# Altium footprint library passive.PcbLib: 22 footprints (part 2 of 2)
Each footprint in its own frame and in the unit in brackets; x right, y up, seen from the top. Pads: shape width x height; smd on the part's side, far side on the other; paste and mask are expansions set on the pad; w line width, h text height; cw(c..) or ccw(c..) is an arc to the next point about the centre after c.
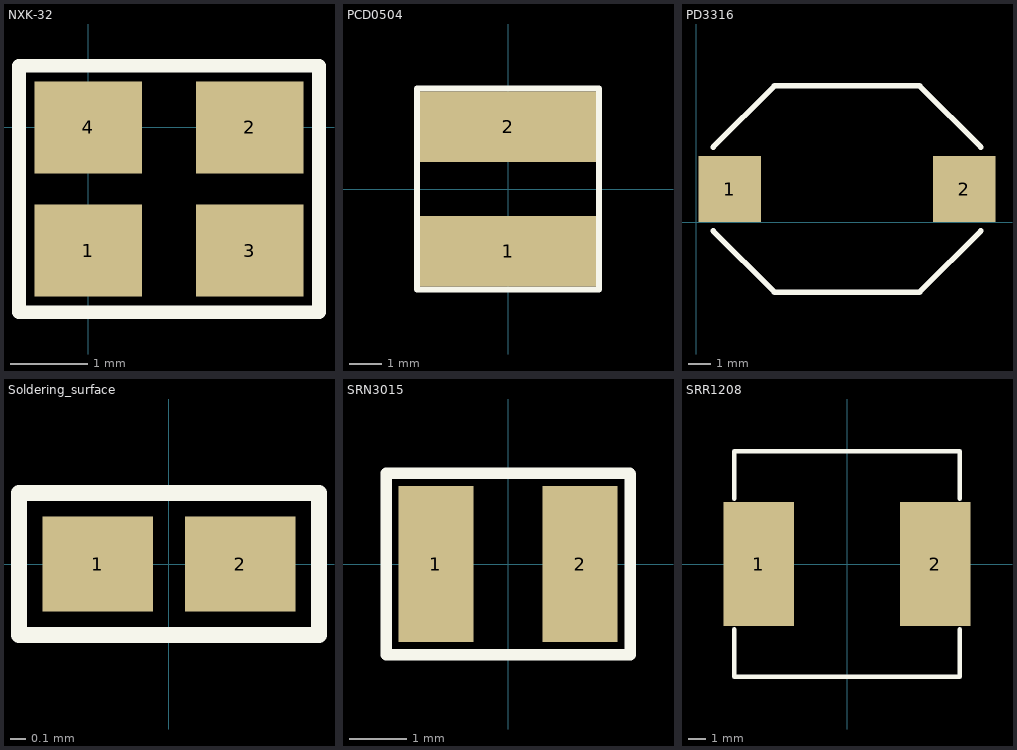
[diagram p1: the footprints below, top view; thin cyan lines are the x and y axes]

## NXK-32 [mm]
height 1
pads (4):
  rect 1.4x1.2 smd: 1(0,-1.6) 2(2.1,0) 3(2.1,-1.6) 4(0,0)
Top Overlay:
  lines w0.177: -0.9,-2.4 3,-2.4 3,0.8 -0.9,0.8 -0.9,-2.4

## PCD0504 [mm] "Power inductor."
height 4.85
pads (2):
  rect 5.5x2.2 smd: 1(0,-1.95) 2(0,1.95)
Top Overlay:
  lines w0.2: -2.85,-3.15 -2.85,3.15 2.85,3.15 2.85,-3.15 -2.85,-3.15
3D body: height 4.85, standoff -0.1, extent -2.6,-2.9 2.6,2.9

## PD3316 [mm]
height 5.21
pads (2):
  rect 2.85x3 smd: 1(1.524,1.524) 2(12.192,1.524)
Top Overlay:
  lines w0.254: 0.762,-0.381 3.556,-3.175 10.16,-3.175 12.954,-0.381 ; 0.762,3.429 3.556,6.223 10.16,6.223 12.954,3.429
3D body: height 5.37, standoff 0, extent 0.253,-3.177 13.463,6.223

## Soldering_surface [mm] "Soldering surface."
pads (2):
  rect 0.7x0.6 smd: 1(-0.45,0) 2(0.45,0)
Top Overlay:
  lines w0.1: -0.95,-0.45 -0.95,0.45 0.95,0.45 0.95,-0.45 -0.95,-0.45

## SRN3015 [mm] "Inductor case. 3x3x1.5mm"
height 1.5
pads (2):
  rect 1.3x2.7 smd: 1(-1.25,0) 2(1.25,0)
Top Overlay:
  lines w0.2: -2.11,-1.57 -2.11,1.57 2.11,1.57 2.12,1.56 2.12,-1.57 -2.11,-1.57
3D body: height 1.5, standoff 0, extent -1.5,-1.51 1.5,1.49

## SRR1208 [mm] "Inductor case. 12.7x12.7x8mm"
height 8
pads (2):
  rect 4x7 smd: 1(-5,0) 2(5,0)
Top Overlay:
  lines w0.254: -6.4,-3.7 -6.4,-6.4 6.4,-6.4 6.4,-3.7 ; -6.4,3.7 -6.4,6.4 6.4,6.4 6.4,3.7
3D body: height 8, standoff 0, extent -6.35,-6.35 6.35,6.35